# Altium schematic symbol library 610 0xx 218 21.SchLib: 19 symbols
Pins are listed as number, name and electrical type; pins without a type are passive.

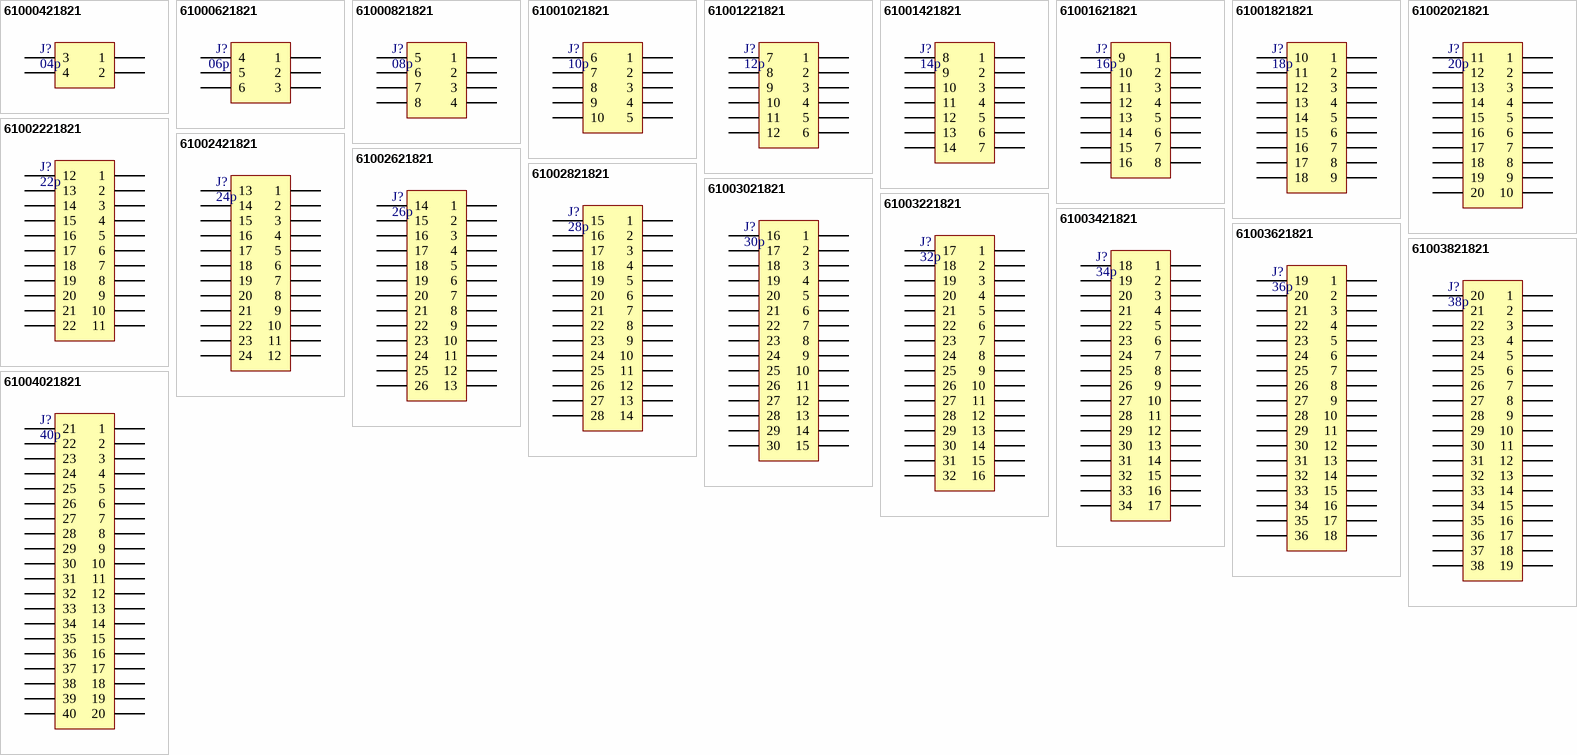
[diagram p0: symbols 61000421821 to 61004021821]

## 61000421821
designator J?, comment 04p
WR-PHD 2.54 mm Dual SMT Socket Header, 04p; PartNumber: 61000421821; PublishedDate: July 2016; Publisher: Wurth Elektronik; ComponentLink1Description: Manufacturer; ComponentLink1URL: http://www.we-online.de; ComponentLink2Description: Datasheet; ComponentLink2URL: http://katalog.we-online.de/em/datasheet/6100xx21821.pdf; PinNumber: 04p
footprint 61000421821
pins: 1, 2, 3, 4

## 61000621821
designator J?, comment 06p
WR-PHD 2.54 mm Dual SMT Socket Header, 06p; PartNumber: 61000621821; PublishedDate: July 2016; Publisher: Wurth Elektronik; ComponentLink1Description: Manufacturer; ComponentLink1URL: http://www.we-online.de; ComponentLink2Description: Datasheet; ComponentLink2URL: http://katalog.we-online.de/em/datasheet/6100xx21821.pdf; PinNumber: 06p
footprint 61000621821
pins: 1, 2, 3, 4, 5, 6

## 61000821821
designator J?, comment 08p
WR-PHD 2.54 mm Dual SMT Socket Header, 08p; PartNumber: 61000821821; PublishedDate: July 2016; Publisher: Wurth Elektronik; ComponentLink1Description: Manufacturer; ComponentLink1URL: http://www.we-online.de; ComponentLink2Description: Datasheet; ComponentLink2URL: http://katalog.we-online.de/em/datasheet/6100xx21821.pdf; PinNumber: 08p
footprint 61000821821
pins: 1, 2, 3, 4, 5, 6, 7, 8

## 61001021821
designator J?, comment 10p
WR-PHD 2.54 mm Dual SMT Socket Header, 10p; PartNumber: 61001021821; PublishedDate: July 2016; Publisher: Wurth Elektronik; ComponentLink1Description: Manufacturer; ComponentLink1URL: http://www.we-online.de; ComponentLink2Description: Datasheet; ComponentLink2URL: http://katalog.we-online.de/em/datasheet/6100xx21821.pdf; PinNumber: 10p
footprint 61001021821
pins: 1, 2, 3, 4, 5, 6, 7, 8, 9, 10

## 61001221821
designator J?, comment 12p
WR-PHD 2.54 mm Dual SMT Socket Header, 12p; PartNumber: 61001221821; PublishedDate: July 2016; Publisher: Wurth Elektronik; ComponentLink1Description: Manufacturer; ComponentLink1URL: http://www.we-online.de; ComponentLink2Description: Datasheet; ComponentLink2URL: http://katalog.we-online.de/em/datasheet/6100xx21821.pdf; PinNumber: 12p
footprint 61001221821
pins: 1, 2, 3, 4, 5, 6, 7, 8, 9, 10, 11, 12

## 61001421821
designator J?, comment 14p
WR-PHD 2.54 mm Dual SMT Socket Header, 14p; PartNumber: 61001421821; PublishedDate: July 2016; Publisher: Wurth Elektronik; ComponentLink1Description: Manufacturer; ComponentLink1URL: http://www.we-online.de; ComponentLink2Description: Datasheet; ComponentLink2URL: http://katalog.we-online.de/em/datasheet/6100xx21821.pdf; PinNumber: 14p
footprint 61001421821
pins: 1, 2, 3, 4, 5, 6, 7, 8, 9, 10, 11, 12, 13, 14

## 61001621821
designator J?, comment 16p
WR-PHD 2.54 mm Dual SMT Socket Header, 16p; PartNumber: 61001621821; PublishedDate: July 2016; Publisher: Wurth Elektronik; ComponentLink1Description: Manufacturer; ComponentLink1URL: http://www.we-online.de; ComponentLink2Description: Datasheet; ComponentLink2URL: http://katalog.we-online.de/em/datasheet/6100xx21821.pdf; PinNumber: 16p
footprint 61001621821
pins: 1, 2, 3, 4, 5, 6, 7, 8, 9, 10, 11, 12, 13, 14, 15, 16

## 61001821821
designator J?, comment 18p
WR-PHD 2.54 mm Dual SMT Socket Header, 18p; PartNumber: 61001821821; PublishedDate: July 2016; Publisher: Wurth Elektronik; ComponentLink1Description: Manufacturer; ComponentLink1URL: http://www.we-online.de; ComponentLink2Description: Datasheet; ComponentLink2URL: http://katalog.we-online.de/em/datasheet/6100xx21821.pdf; PinNumber: 18p
footprint 61001821821
pins: 1, 2, 3, 4, 5, 6, 7, 8, 9, 10, 11, 12, 13, 14, 15, 16, 17, 18

## 61002021821
designator J?, comment 20p
WR-PHD 2.54 mm Dual SMT Socket Header, 20p; PartNumber: 61002021821; PublishedDate: July 2016; Publisher: Wurth Elektronik; ComponentLink1Description: Manufacturer; ComponentLink1URL: http://www.we-online.de; ComponentLink2Description: Datasheet; ComponentLink2URL: http://katalog.we-online.de/em/datasheet/6100xx21821.pdf; PinNumber: 20p
footprint 61002021821
pins: 1, 2, 3, 4, 5, 6, 7, 8, 9, 10, 11, 12, 13, 14, 15, 16, 17, 18, 19, 20

## 61002221821
designator J?, comment 22p
WR-PHD 2.54 mm Dual SMT Socket Header, 22p; PartNumber: 61002221821; PublishedDate: July 2016; Publisher: Wurth Elektronik; ComponentLink1Description: Manufacturer; ComponentLink1URL: http://www.we-online.de; ComponentLink2Description: Datasheet; ComponentLink2URL: http://katalog.we-online.de/em/datasheet/6100xx21821.pdf; PinNumber: 22p
footprint 61002221821
pins: 1, 2, 3, 4, 5, 6, 7, 8, 9, 10, 11, 12, 13, 14, 15, 16, 17, 18, 19, 20, 21, 22

## 61002421821
designator J?, comment 24p
WR-PHD 2.54 mm Dual SMT Socket Header, 24p; PartNumber: 61002421821; PublishedDate: July 2016; Publisher: Wurth Elektronik; ComponentLink1Description: Manufacturer; ComponentLink1URL: http://www.we-online.de; ComponentLink2Description: Datasheet; ComponentLink2URL: http://katalog.we-online.de/em/datasheet/6100xx21821.pdf; PinNumber: 24p
footprint 61002421821
pins: 1, 2, 3, 4, 5, 6, 7, 8, 9, 10, 11, 12, 13, 14, 15, 16, 17, 18, 19, 20, 21, 22, 23, 24

## 61002621821
designator J?, comment 26p
WR-PHD 2.54 mm Dual SMT Socket Header, 26p; PartNumber: 61002621821; PublishedDate: July 2016; Publisher: Wurth Elektronik; ComponentLink1Description: Manufacturer; ComponentLink1URL: http://www.we-online.de; ComponentLink2Description: Datasheet; ComponentLink2URL: http://katalog.we-online.de/em/datasheet/6100xx21821.pdf; PinNumber: 26p
footprint 61002621821
pins: 1, 2, 3, 4, 5, 6, 7, 8, 9, 10, 11, 12, 13, 14, 15, 16, 17, 18, 19, 20, 21, 22, 23, 24, 25, 26

## 61002821821
designator J?, comment 28p
WR-PHD 2.54 mm Dual SMT Socket Header, 28p; PartNumber: 61002821821; PublishedDate: July 2016; Publisher: Wurth Elektronik; ComponentLink1Description: Manufacturer; ComponentLink1URL: http://www.we-online.de; ComponentLink2Description: Datasheet; ComponentLink2URL: http://katalog.we-online.de/em/datasheet/6100xx21821.pdf; PinNumber: 28p
footprint 61002821821
pins: 1, 2, 3, 4, 5, 6, 7, 8, 9, 10, 11, 12, 13, 14, 15, 16, 17, 18, 19, 20, 21, 22, 23, 24, 25, 26, 27, 28

## 61003021821
designator J?, comment 30p
WR-PHD 2.54 mm Dual SMT Socket Header, 30p; PartNumber: 61003021821; PublishedDate: July 2016; Publisher: Wurth Elektronik; ComponentLink1Description: Manufacturer; ComponentLink1URL: http://www.we-online.de; ComponentLink2Description: Datasheet; ComponentLink2URL: http://katalog.we-online.de/em/datasheet/6100xx21821.pdf; PinNumber: 30p
footprint 61003021821
pins: 1, 2, 3, 4, 5, 6, 7, 8, 9, 10, 11, 12, 13, 14, 15, 16, 17, 18, 19, 20, 21, 22, 23, 24, 25, 26, 27, 28, 29, 30

## 61003221821
designator J?, comment 32p
WR-PHD 2.54 mm Dual SMT Socket Header, 32p; PartNumber: 61003221821; PublishedDate: July 2016; Publisher: Wurth Elektronik; ComponentLink1Description: Manufacturer; ComponentLink1URL: http://www.we-online.de; ComponentLink2Description: Datasheet; ComponentLink2URL: http://katalog.we-online.de/em/datasheet/6100xx21821.pdf; PinNumber: 32p
footprint 61003221821
pins: 1, 2, 3, 4, 5, 6, 7, 8, 9, 10, 11, 12, 13, 14, 15, 16, 17, 18, 19, 20, 21, 22, 23, 24, 25, 26, 27, 28, 29, 30, 31, 32

## 61003421821
designator J?, comment 34p
WR-PHD 2.54 mm Dual SMT Socket Header, 34p; PartNumber: 61003421821; PublishedDate: July 2016; Publisher: Wurth Elektronik; ComponentLink1Description: Manufacturer; ComponentLink1URL: http://www.we-online.de; ComponentLink2Description: Datasheet; ComponentLink2URL: http://katalog.we-online.de/em/datasheet/6100xx21821.pdf; PinNumber: 34p
footprint 61003421821
pins: 1, 2, 3, 4, 5, 6, 7, 8, 9, 10, 11, 12, 13, 14, 15, 16, 17, 18, 19, 20, 21, 22, 23, 24, 25, 26, 27, 28, 29, 30, 31, 32, 33, 34

## 61003621821
designator J?, comment 36p
WR-PHD 2.54 mm Dual SMT Socket Header, 36p; PartNumber: 61003621821; PublishedDate: July 2016; Publisher: Wurth Elektronik; ComponentLink1Description: Manufacturer; ComponentLink1URL: http://www.we-online.de; ComponentLink2Description: Datasheet; ComponentLink2URL: http://katalog.we-online.de/em/datasheet/6100xx21821.pdf; PinNumber: 36p
footprint 61003621821
pins: 1, 2, 3, 4, 5, 6, 7, 8, 9, 10, 11, 12, 13, 14, 15, 16, 17, 18, 19, 20, 21, 22, 23, 24, 25, 26, 27, 28, 29, 30, 31, 32, 33, 34, 35, 36

## 61003821821
designator J?, comment 38p
WR-PHD 2.54 mm Dual SMT Socket Header, 38p; PartNumber: 61003821821; PublishedDate: July 2016; Publisher: Wurth Elektronik; ComponentLink1Description: Manufacturer; ComponentLink1URL: http://www.we-online.de; ComponentLink2Description: Datasheet; ComponentLink2URL: http://katalog.we-online.de/em/datasheet/6100xx21821.pdf; PinNumber: 38p
footprint 61003821821
pins: 1, 2, 3, 4, 5, 6, 7, 8, 9, 10, 11, 12, 13, 14, 15, 16, 17, 18, 19, 20, 21, 22, 23, 24, 25, 26, 27, 28, 29, 30, 31, 32, 33, 34, 35, 36, 37, 38

## 61004021821
designator J?, comment 40p
WR-PHD 2.54 mm Dual SMT Socket Header, 40p; PartNumber: 61004021821; PublishedDate: July 2016; Publisher: Wurth Elektronik; ComponentLink1Description: Manufacturer; ComponentLink1URL: http://www.we-online.de; ComponentLink2Description: Datasheet; ComponentLink2URL: http://katalog.we-online.de/em/datasheet/6100xx21821.pdf; PinNumber: 40p
footprint 61004021821
pins: 1, 2, 3, 4, 5, 6, 7, 8, 9, 10, 11, 12, 13, 14, 15, 16, 17, 18, 19, 20, 21, 22, 23, 24, 25, 26, 27, 28, 29, 30, 31, 32, 33, 34, 35, 36, 37, 38, 39, 40